# Altium integrated library Linear Technology Power Management Hot Swap Controllers.IntLib: 992 symbols (part 31 of 93)
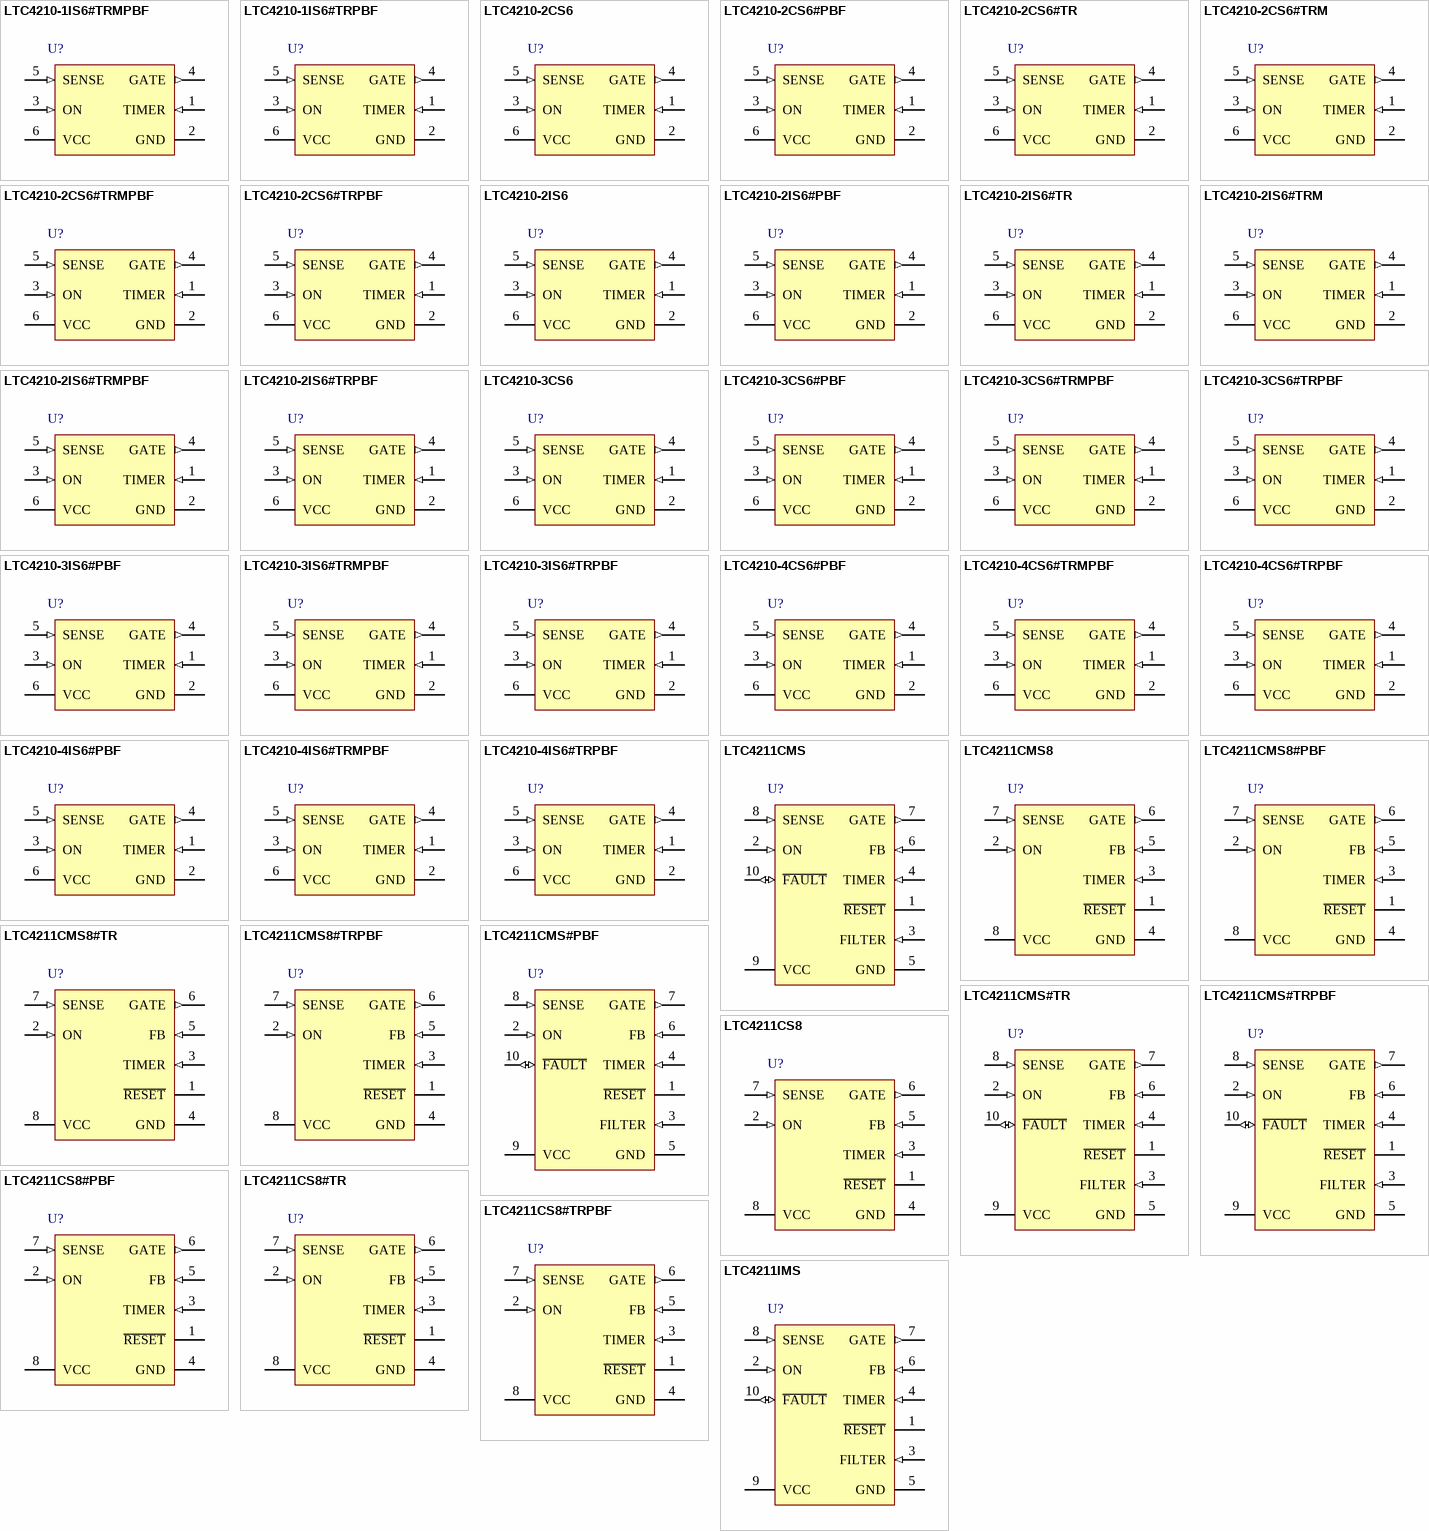
[diagram p67: symbols LTC4210-1IS6#TRMPBF to LTC4211IMS]

## LTC4211CMS#TR
designator U?
Hot Swap Controller with Multifunction Current Control, 2.5 to 16.5 V Vin, 10-pin SOP (MS-10), 0 to 70 degC, Tape and Reel; Manufacturer: Linear Technology; PartNumber: LTC4211CMS#TR; Active Limiting: no; Circuit Breaker Accuracy(%): 20; Circuit Breaker Threshold: 50 mV; Circuit Breakers(#): 1; Extended Temp: C, I; Fast Comparator: yes; In-Rush Current: Active; DatasheetVersion: Rev. B; PackageVersion: Rev. E, 06/2010; PackageReference: MS-10; PackageDescription: 10-Pin Plastic MSOP, Body 3 x 3 mm, Pitch 0.5 mm; Supplier 1: Digi-Key; Supplier Part Number 1: LTC4211CMSTR-ND; Fault: yes; Foldback: no; Packing: Tape and Reel; Power Good: no; Reset: yes; RoHS: FALSE; Vin Range: 2.5 to 16.5 V; Mounting Technology: Surface Mount; ComponentLink1Description: Manufacturer URL; ComponentLink1URL: http://www.linear.com/; ComponentLink2Description: Datasheet; ComponentLink2URL: http://cds.linear.com/docs/en/datasheet/4211fb.pdf; ComponentLink3Description: Package Specification; ComponentLink3URL: http://cds.linear.com/docs/en/packaging/05081661_F_MS.pdf
footprint LT-MS-10_N (SOP, 10-Leads, Body 3.1x3.1mm, Pitch 0.5mm, IPC Medium Density)
footprint LT-MS-10_L (SOP, 10-Leads, Body 3.1x3.1mm, Pitch 0.5mm, IPC High Density)
footprint LT-MS-10_M (SOP, 10-Leads, Body 3.1x3.1mm, Pitch 0.5mm, IPC Low Density)
pins: 1 ~{RESET} (hiz) "R\E\S\E\T\ (Pin 1/Pin 1): An open-drain output that pulls to GND if the voltage at the FB pin (Pin 5/Pin 6) falls below the FB pin threshold (1.236V). During the start-up cycle, the R\E\S\E\T\ pin goes high impedance at the (See Datasheet)", 2 ON (in) "ON (Pin 2/Pin 2): An active high signal used to enable or disable LTC4211 operation. COMP1’s high-to-low threshold is set at 1.236V and its hysteresis is set at 80mV. If a logic high signal is applied to the ON pin (VON (See Datasheet)", 3 FILTER (in) "FILTER (Not available S8/MS8, Pin 3 MS): Overcurrent Fault Timing Pin and Overvoltage Fault Set pin. With a capacitor connected from this pin to ground, the SLOW COMP’s response time can be adjusted. In the S8/MS8 versio(See Datasheet)", 4 TIMER (in) "TIMER (Pin 3/Pin 4): A capacitor connected from this pin to GND sets the LTC4211’s system timing. The LTC4211’s initial and second start-up timing cycles and its internal “power good?delay time are defined (See Datasheet)", 5 GND (power) "GND (Pin 4/Pin 5): Device Ground Connection. Connect this pin to the system’s analog ground plane.", 6 FB (in) "FB (Pin 5/Pin 6): The FB (Feedback) pin is an input to the COMP2 comparator and monitors the output supply voltage through an external resistor divider. If VFB < 1.236V, the R\E\S\E\T\ pin pulls low. An internal glitch (See Datasheet)", 7 GATE (out) "GATE (Pin 6/Pin 7): The output signal at this pin is the high side gate drive for the external N-channel FET pass transistor. As shown in the Block Diagram, an internal charge pump supplies a 10uA gate current and sufficient (See Datasheet)", 8 SENSE (in) "SENSE (Pin 7/Pin 8): Circuit Breaker Set Pin. With a sense resistor placed in the power path between VCC and SENSE, the LTC4211’s electronic circuit breaker trips if the voltage across the sense resistor exceeds th(See Datasheet)", 9 VCC (power) "VCC (Pin 8/Pin 9): This is the positive supply input to the LTC4211. The LTC4211 operates from 2.5V < VCC < 16.5V, and the supply current is typically 1mA. An internal undervoltage lockout circuit disables the device until (See Datasheet)", 10 ~{FAULT} (io) "F\A\U\L\T\ (Not available on S8/MS8, Pin 10 MS): F\A\U\L\T\ is both an input and an output. Connected to this pin are an analog comparator (COMP6) and an open-drain N-channel FET. During normal operation, if COMP6 is driven (See Datasheet)"

## LTC4211CMS#TRPBF
designator U?
Hot Swap Controller with Multifunction Current Control, 2.5 to 16.5 V Vin, 10-pin SOP (MS-10), 0 to 70 degC, Pb-Free, Tape and Reel; Manufacturer: Linear Technology; PartNumber: LTC4211CMS#TRPBF; Active Limiting: no; Circuit Breaker Accuracy(%): 20; Circuit Breaker Threshold: 50 mV; Circuit Breakers(#): 1; Extended Temp: C, I; Fast Comparator: yes; In-Rush Current: Active; DatasheetVersion: Rev. B; PackageVersion: Rev. E, 06/2010; PackageReference: MS-10; PackageDescription: 10-Pin Plastic MSOP, Body 3 x 3 mm, Pitch 0.5 mm; Supplier 1: Digi-Key; Supplier Part Number 1: LTC4211CMS#TRPBF-ND; Supplier 2: Newark; Supplier Part Number 2: 56M8770; Fault: yes; Foldback: no; Packing: Tape and Reel; Power Good: no; Reset: yes; RoHS: TRUE; Vin Range: 2.5 to 16.5 V; Mounting Technology: Surface Mount; ComponentLink1Description: Manufacturer URL; ComponentLink1URL: http://www.linear.com/; ComponentLink2Description: Datasheet; ComponentLink2URL: http://cds.linear.com/docs/en/datasheet/4211fb.pdf; ComponentLink3Description: Package Specification; ComponentLink3URL: http://cds.linear.com/docs/en/packaging/05081661_F_MS.pdf
footprint LT-MS-10_N (SOP, 10-Leads, Body 3.1x3.1mm, Pitch 0.5mm, IPC Medium Density)
footprint LT-MS-10_L (SOP, 10-Leads, Body 3.1x3.1mm, Pitch 0.5mm, IPC High Density)
footprint LT-MS-10_M (SOP, 10-Leads, Body 3.1x3.1mm, Pitch 0.5mm, IPC Low Density)
pins: 1 ~{RESET} (hiz) "R\E\S\E\T\ (Pin 1/Pin 1): An open-drain output that pulls to GND if the voltage at the FB pin (Pin 5/Pin 6) falls below the FB pin threshold (1.236V). During the start-up cycle, the R\E\S\E\T\ pin goes high impedance at the (See Datasheet)", 2 ON (in) "ON (Pin 2/Pin 2): An active high signal used to enable or disable LTC4211 operation. COMP1’s high-to-low threshold is set at 1.236V and its hysteresis is set at 80mV. If a logic high signal is applied to the ON pin (VON (See Datasheet)", 3 FILTER (in) "FILTER (Not available S8/MS8, Pin 3 MS): Overcurrent Fault Timing Pin and Overvoltage Fault Set pin. With a capacitor connected from this pin to ground, the SLOW COMP’s response time can be adjusted. In the S8/MS8 versio(See Datasheet)", 4 TIMER (in) "TIMER (Pin 3/Pin 4): A capacitor connected from this pin to GND sets the LTC4211’s system timing. The LTC4211’s initial and second start-up timing cycles and its internal “power good?delay time are defined (See Datasheet)", 5 GND (power) "GND (Pin 4/Pin 5): Device Ground Connection. Connect this pin to the system’s analog ground plane.", 6 FB (in) "FB (Pin 5/Pin 6): The FB (Feedback) pin is an input to the COMP2 comparator and monitors the output supply voltage through an external resistor divider. If VFB < 1.236V, the R\E\S\E\T\ pin pulls low. An internal glitch (See Datasheet)", 7 GATE (out) "GATE (Pin 6/Pin 7): The output signal at this pin is the high side gate drive for the external N-channel FET pass transistor. As shown in the Block Diagram, an internal charge pump supplies a 10uA gate current and sufficient (See Datasheet)", 8 SENSE (in) "SENSE (Pin 7/Pin 8): Circuit Breaker Set Pin. With a sense resistor placed in the power path between VCC and SENSE, the LTC4211’s electronic circuit breaker trips if the voltage across the sense resistor exceeds th(See Datasheet)", 9 VCC (power) "VCC (Pin 8/Pin 9): This is the positive supply input to the LTC4211. The LTC4211 operates from 2.5V < VCC < 16.5V, and the supply current is typically 1mA. An internal undervoltage lockout circuit disables the device until (See Datasheet)", 10 ~{FAULT} (io) "F\A\U\L\T\ (Not available on S8/MS8, Pin 10 MS): F\A\U\L\T\ is both an input and an output. Connected to this pin are an analog comparator (COMP6) and an open-drain N-channel FET. During normal operation, if COMP6 is driven (See Datasheet)"

## LTC4211CS8
designator U?
Hot Swap Controller with Multifunction Current Control, 2.5 to 16.5 V Vin, 8-pin SOIC (S8-8), 0 to 70 degC; Manufacturer: Linear Technology; PartNumber: LTC4211CS8; Active Limiting: no; Circuit Breaker Accuracy(%): 20; Circuit Breaker Threshold: 50 mV; Circuit Breakers(#): 1; Extended Temp: C, I; Fast Comparator: yes; In-Rush Current: Active; DatasheetVersion: Rev. B; PackageVersion: Rev. G, 03/2012; PackageReference: S8-8; PackageDescription: 8-Pin Plastic Small Outline (Narrow .150 Inch), Body 4.9 x 3.9 mm, Pitch 1.27 mm; Supplier 1: Digi-Key; Supplier Part Number 1: LTC4211CS8-ND; Fault: yes; Foldback: no; Power Good: no; Reset: yes; RoHS: FALSE; Vin Range: 2.5 to 16.5 V; Mounting Technology: Surface Mount; ComponentLink1Description: Manufacturer URL; ComponentLink1URL: http://www.linear.com/; ComponentLink2Description: Datasheet; ComponentLink2URL: http://cds.linear.com/docs/en/datasheet/4211fb.pdf; ComponentLink3Description: Package Specification; ComponentLink3URL: http://cds.linear.com/docs/en/packaging/05081610_G_SO8.pdf
footprint LT-S8-8_N (SOIC, 8-Leads, Body 5x4mm, Pitch 1.27mm, IPC Medium Density)
footprint LT-S8-8_L (SOIC, 8-Leads, Body 5x4mm, Pitch 1.27mm, IPC High Density)
footprint LT-S8-8_M (SOIC, 8-Leads, Body 5x4mm, Pitch 1.27mm, IPC Low Density)
pins: 1 ~{RESET} (hiz) "R\E\S\E\T\ (Pin 1/Pin 1): An open-drain output that pulls to GND if the voltage at the FB pin (Pin 5/Pin 6) falls below the FB pin threshold (1.236V). During the start-up cycle, the R\E\S\E\T\ pin goes high impedance at the (See Datasheet)", 2 ON (in) "ON (Pin 2/Pin 2): An active high signal used to enable or disable LTC4211 operation. COMP1's high-to-low threshold is set at 1.236V and its hysteresis is set at 80mV. If a logic high signal is applied to the ON pin (VON (See Datasheet)", 3 TIMER (in) "TIMER (Pin 3/Pin 4): A capacitor connected from this pin to GND sets the LTC4211's system timing. The LTC4211's initial and second start-up timing cycles and its internal "power good"± delay time are defined (See Datasheet)", 4 GND (power) "GND (Pin 4/Pin 5): Device Ground Connection. Connect this pin to the system's analog ground plane.", 5 FB (in) "FB (Pin 5/Pin 6): The FB (Feedback) pin is an input to the COMP2 comparator and monitors the output supply voltage through an external resistor divider. If VFB < 1.236V, the R\E\S\E\T\ pin pulls low. An internal glitch (See Datasheet)", 6 GATE (out) "GATE (Pin 6/Pin 7): The output signal at this pin is the high side gate drive for the external N-channel FET pass transistor. As shown in the Block Diagram, an internal charge pump supplies a 10uA gate current and sufficient (See Datasheet)", 7 SENSE (in) "SENSE (Pin 7/Pin 8): Circuit Breaker Set Pin. With a sense resistor placed in the power path between VCC and SENSE, the LTC4211's electronic circuit breaker trips if the voltage across the sense resistor exceeds th(See Datasheet)", 8 VCC (power) "VCC (Pin 8/Pin 9): This is the positive supply input to the LTC4211. The LTC4211 operates from 2.5V < VCC < 16.5V, and the supply current is typically 1mA. An internal undervoltage lockout circuit disables the device until (See Datasheet)"

## LTC4211CS8#PBF
designator U?
Hot Swap Controller with Multifunction Current Control, 2.5 to 16.5 V Vin, 8-pin SOIC (S8-8), 0 to 70 degC, Pb-Free; Manufacturer: Linear Technology; PartNumber: LTC4211CS8#PBF; Active Limiting: no; Circuit Breaker Accuracy(%): 20; Circuit Breaker Threshold: 50 mV; Circuit Breakers(#): 1; Extended Temp: C, I; Fast Comparator: yes; In-Rush Current: Active; DatasheetVersion: Rev. B; PackageVersion: Rev. G, 03/2012; PackageReference: S8-8; PackageDescription: 8-Pin Plastic Small Outline (Narrow .150 Inch), Body 4.9 x 3.9 mm, Pitch 1.27 mm; Supplier 1: Digi-Key; Supplier Part Number 1: LTC4211CS8#PBF-ND; Supplier 2: Farnell; Supplier Part Number 2: 1273989; Supplier 3: Newark; Supplier Part Number 3: 56M8776; Fault: yes; Foldback: no; Power Good: no; Reset: yes; RoHS: TRUE; Vin Range: 2.5 to 16.5 V; Mounting Technology: Surface Mount; ComponentLink1Description: Manufacturer URL; ComponentLink1URL: http://www.linear.com/; ComponentLink2Description: Datasheet; ComponentLink2URL: http://cds.linear.com/docs/en/datasheet/4211fb.pdf; ComponentLink3Description: Package Specification; ComponentLink3URL: http://cds.linear.com/docs/en/packaging/05081610_G_SO8.pdf
footprint LT-S8-8_N (SOIC, 8-Leads, Body 5x4mm, Pitch 1.27mm, IPC Medium Density)
footprint LT-S8-8_L (SOIC, 8-Leads, Body 5x4mm, Pitch 1.27mm, IPC High Density)
footprint LT-S8-8_M (SOIC, 8-Leads, Body 5x4mm, Pitch 1.27mm, IPC Low Density)
pins: 1 ~{RESET} (hiz) "R\E\S\E\T\ (Pin 1/Pin 1): An open-drain output that pulls to GND if the voltage at the FB pin (Pin 5/Pin 6) falls below the FB pin threshold (1.236V). During the start-up cycle, the R\E\S\E\T\ pin goes high impedance at the (See Datasheet)", 2 ON (in) "ON (Pin 2/Pin 2): An active high signal used to enable or disable LTC4211 operation. COMP1's high-to-low threshold is set at 1.236V and its hysteresis is set at 80mV. If a logic high signal is applied to the ON pin (VON (See Datasheet)", 3 TIMER (in) "TIMER (Pin 3/Pin 4): A capacitor connected from this pin to GND sets the LTC4211's system timing. The LTC4211's initial and second start-up timing cycles and its internal "power good"± delay time are defined (See Datasheet)", 4 GND (power) "GND (Pin 4/Pin 5): Device Ground Connection. Connect this pin to the system's analog ground plane.", 5 FB (in) "FB (Pin 5/Pin 6): The FB (Feedback) pin is an input to the COMP2 comparator and monitors the output supply voltage through an external resistor divider. If VFB < 1.236V, the R\E\S\E\T\ pin pulls low. An internal glitch (See Datasheet)", 6 GATE (out) "GATE (Pin 6/Pin 7): The output signal at this pin is the high side gate drive for the external N-channel FET pass transistor. As shown in the Block Diagram, an internal charge pump supplies a 10uA gate current and sufficient (See Datasheet)", 7 SENSE (in) "SENSE (Pin 7/Pin 8): Circuit Breaker Set Pin. With a sense resistor placed in the power path between VCC and SENSE, the LTC4211's electronic circuit breaker trips if the voltage across the sense resistor exceeds th(See Datasheet)", 8 VCC (power) "VCC (Pin 8/Pin 9): This is the positive supply input to the LTC4211. The LTC4211 operates from 2.5V < VCC < 16.5V, and the supply current is typically 1mA. An internal undervoltage lockout circuit disables the device until (See Datasheet)"

## LTC4211CS8#TR
designator U?
Hot Swap Controller with Multifunction Current Control, 2.5 to 16.5 V Vin, 8-pin SOIC (S8-8), 0 to 70 degC, Tape and Reel; Manufacturer: Linear Technology; PartNumber: LTC4211CS8#TR; Active Limiting: no; Circuit Breaker Accuracy(%): 20; Circuit Breaker Threshold: 50 mV; Circuit Breakers(#): 1; Extended Temp: C, I; Fast Comparator: yes; In-Rush Current: Active; DatasheetVersion: Rev. B; PackageVersion: Rev. G, 03/2012; PackageReference: S8-8; PackageDescription: 8-Pin Plastic Small Outline (Narrow .150 Inch), Body 4.9 x 3.9 mm, Pitch 1.27 mm; Supplier 1: Digi-Key; Supplier Part Number 1: LTC4211CS8TR-ND; Fault: yes; Foldback: no; Packing: Tape and Reel; Power Good: no; Reset: yes; RoHS: FALSE; Vin Range: 2.5 to 16.5 V; Mounting Technology: Surface Mount; ComponentLink1Description: Manufacturer URL; ComponentLink1URL: http://www.linear.com/; ComponentLink2Description: Datasheet; ComponentLink2URL: http://cds.linear.com/docs/en/datasheet/4211fb.pdf; ComponentLink3Description: Package Specification; ComponentLink3URL: http://cds.linear.com/docs/en/packaging/05081610_G_SO8.pdf
footprint LT-S8-8_N (SOIC, 8-Leads, Body 5x4mm, Pitch 1.27mm, IPC Medium Density)
footprint LT-S8-8_L (SOIC, 8-Leads, Body 5x4mm, Pitch 1.27mm, IPC High Density)
footprint LT-S8-8_M (SOIC, 8-Leads, Body 5x4mm, Pitch 1.27mm, IPC Low Density)
pins: 1 ~{RESET} (hiz) "R\E\S\E\T\ (Pin 1/Pin 1): An open-drain output that pulls to GND if the voltage at the FB pin (Pin 5/Pin 6) falls below the FB pin threshold (1.236V). During the start-up cycle, the R\E\S\E\T\ pin goes high impedance at the (See Datasheet)", 2 ON (in) "ON (Pin 2/Pin 2): An active high signal used to enable or disable LTC4211 operation. COMP1's high-to-low threshold is set at 1.236V and its hysteresis is set at 80mV. If a logic high signal is applied to the ON pin (VON (See Datasheet)", 3 TIMER (in) "TIMER (Pin 3/Pin 4): A capacitor connected from this pin to GND sets the LTC4211's system timing. The LTC4211's initial and second start-up timing cycles and its internal "power good"± delay time are defined (See Datasheet)", 4 GND (power) "GND (Pin 4/Pin 5): Device Ground Connection. Connect this pin to the system's analog ground plane.", 5 FB (in) "FB (Pin 5/Pin 6): The FB (Feedback) pin is an input to the COMP2 comparator and monitors the output supply voltage through an external resistor divider. If VFB < 1.236V, the R\E\S\E\T\ pin pulls low. An internal glitch (See Datasheet)", 6 GATE (out) "GATE (Pin 6/Pin 7): The output signal at this pin is the high side gate drive for the external N-channel FET pass transistor. As shown in the Block Diagram, an internal charge pump supplies a 10uA gate current and sufficient (See Datasheet)", 7 SENSE (in) "SENSE (Pin 7/Pin 8): Circuit Breaker Set Pin. With a sense resistor placed in the power path between VCC and SENSE, the LTC4211's electronic circuit breaker trips if the voltage across the sense resistor exceeds th(See Datasheet)", 8 VCC (power) "VCC (Pin 8/Pin 9): This is the positive supply input to the LTC4211. The LTC4211 operates from 2.5V < VCC < 16.5V, and the supply current is typically 1mA. An internal undervoltage lockout circuit disables the device until (See Datasheet)"

## LTC4211CS8#TRPBF
designator U?
Hot Swap Controller with Multifunction Current Control, 2.5 to 16.5 V Vin, 8-pin SOIC (S8-8), 0 to 70 degC, Pb-Free, Tape and Reel; Manufacturer: Linear Technology; PartNumber: LTC4211CS8#TRPBF; Active Limiting: no; Circuit Breaker Accuracy(%): 20; Circuit Breaker Threshold: 50 mV; Circuit Breakers(#): 1; Extended Temp: C, I; Fast Comparator: yes; In-Rush Current: Active; DatasheetVersion: Rev. B; PackageVersion: Rev. G, 03/2012; PackageReference: S8-8; PackageDescription: 8-Pin Plastic Small Outline (Narrow .150 Inch), Body 4.9 x 3.9 mm, Pitch 1.27 mm; Supplier 1: Digi-Key; Supplier Part Number 1: LTC4211CS8#TRPBFTR-ND; Supplier 2: Digi-Key; Supplier Part Number 2: LTC4211CS8#TRPBFCT-ND; Supplier 3: Digi-Key; Supplier Part Number 3: LTC4211CS8#TRPBFDKR-ND; Supplier 4: Newark; Supplier Part Number 4: 56M8778; Fault: yes; Foldback: no; Packing: Tape and Reel; Power Good: no; Reset: yes; RoHS: TRUE; Vin Range: 2.5 to 16.5 V; Mounting Technology: Surface Mount; ComponentLink1Description: Manufacturer URL; ComponentLink1URL: http://www.linear.com/; ComponentLink2Description: Datasheet; ComponentLink2URL: http://cds.linear.com/docs/en/datasheet/4211fb.pdf; ComponentLink3Description: Package Specification; ComponentLink3URL: http://cds.linear.com/docs/en/packaging/05081610_G_SO8.pdf
footprint LT-S8-8_N (SOIC, 8-Leads, Body 5x4mm, Pitch 1.27mm, IPC Medium Density)
footprint LT-S8-8_L (SOIC, 8-Leads, Body 5x4mm, Pitch 1.27mm, IPC High Density)
footprint LT-S8-8_M (SOIC, 8-Leads, Body 5x4mm, Pitch 1.27mm, IPC Low Density)
pins: 1 ~{RESET} (hiz) "R\E\S\E\T\ (Pin 1/Pin 1): An open-drain output that pulls to GND if the voltage at the FB pin (Pin 5/Pin 6) falls below the FB pin threshold (1.236V). During the start-up cycle, the R\E\S\E\T\ pin goes high impedance at the (See Datasheet)", 2 ON (in) "ON (Pin 2/Pin 2): An active high signal used to enable or disable LTC4211 operation. COMP1's high-to-low threshold is set at 1.236V and its hysteresis is set at 80mV. If a logic high signal is applied to the ON pin (VON (See Datasheet)", 3 TIMER (in) "TIMER (Pin 3/Pin 4): A capacitor connected from this pin to GND sets the LTC4211's system timing. The LTC4211's initial and second start-up timing cycles and its internal "power good"± delay time are defined (See Datasheet)", 4 GND (power) "GND (Pin 4/Pin 5): Device Ground Connection. Connect this pin to the system's analog ground plane.", 5 FB (in) "FB (Pin 5/Pin 6): The FB (Feedback) pin is an input to the COMP2 comparator and monitors the output supply voltage through an external resistor divider. If VFB < 1.236V, the R\E\S\E\T\ pin pulls low. An internal glitch (See Datasheet)", 6 GATE (out) "GATE (Pin 6/Pin 7): The output signal at this pin is the high side gate drive for the external N-channel FET pass transistor. As shown in the Block Diagram, an internal charge pump supplies a 10uA gate current and sufficient (See Datasheet)", 7 SENSE (in) "SENSE (Pin 7/Pin 8): Circuit Breaker Set Pin. With a sense resistor placed in the power path between VCC and SENSE, the LTC4211's electronic circuit breaker trips if the voltage across the sense resistor exceeds th(See Datasheet)", 8 VCC (power) "VCC (Pin 8/Pin 9): This is the positive supply input to the LTC4211. The LTC4211 operates from 2.5V < VCC < 16.5V, and the supply current is typically 1mA. An internal undervoltage lockout circuit disables the device until (See Datasheet)"

## LTC4211IMS
designator U?
Hot Swap Controller with Multifunction Current Control, 2.5 to 16.5 V Vin, 10-pin SOP (MS-10), -40 to 85 degC; Manufacturer: Linear Technology; PartNumber: LTC4211IMS; Active Limiting: no; Circuit Breaker Accuracy(%): 20; Circuit Breaker Threshold: 50 mV; Circuit Breakers(#): 1; Extended Temp: C, I; Fast Comparator: yes; In-Rush Current: Active; DatasheetVersion: Rev. B; PackageVersion: Rev. E, 06/2010; PackageReference: MS-10; PackageDescription: 10-Pin Plastic MSOP, Body 3 x 3 mm, Pitch 0.5 mm; Supplier 1: Digi-Key; Supplier Part Number 1: LTC4211IMS-ND; Fault: yes; Foldback: no; Power Good: no; Reset: yes; RoHS: FALSE; Vin Range: 2.5 to 16.5 V; Mounting Technology: Surface Mount; ComponentLink1Description: Manufacturer URL; ComponentLink1URL: http://www.linear.com/; ComponentLink2Description: Datasheet; ComponentLink2URL: http://cds.linear.com/docs/en/datasheet/4211fb.pdf; ComponentLink3Description: Package Specification; ComponentLink3URL: http://cds.linear.com/docs/en/packaging/05081661_F_MS.pdf
footprint LT-MS-10_N (SOP, 10-Leads, Body 3.1x3.1mm, Pitch 0.5mm, IPC Medium Density)
footprint LT-MS-10_L (SOP, 10-Leads, Body 3.1x3.1mm, Pitch 0.5mm, IPC High Density)
footprint LT-MS-10_M (SOP, 10-Leads, Body 3.1x3.1mm, Pitch 0.5mm, IPC Low Density)
pins: 1 ~{RESET} (hiz) "R\E\S\E\T\ (Pin 1/Pin 1): An open-drain output that pulls to GND if the voltage at the FB pin (Pin 5/Pin 6) falls below the FB pin threshold (1.236V). During the start-up cycle, the R\E\S\E\T\ pin goes high impedance at the (See Datasheet)", 2 ON (in) "ON (Pin 2/Pin 2): An active high signal used to enable or disable LTC4211 operation. COMP1’s high-to-low threshold is set at 1.236V and its hysteresis is set at 80mV. If a logic high signal is applied to the ON pin (VON (See Datasheet)", 3 FILTER (in) "FILTER (Not available S8/MS8, Pin 3 MS): Overcurrent Fault Timing Pin and Overvoltage Fault Set pin. With a capacitor connected from this pin to ground, the SLOW COMP’s response time can be adjusted. In the S8/MS8 versio(See Datasheet)", 4 TIMER (in) "TIMER (Pin 3/Pin 4): A capacitor connected from this pin to GND sets the LTC4211’s system timing. The LTC4211’s initial and second start-up timing cycles and its internal “power good?delay time are defined (See Datasheet)", 5 GND (power) "GND (Pin 4/Pin 5): Device Ground Connection. Connect this pin to the system’s analog ground plane.", 6 FB (in) "FB (Pin 5/Pin 6): The FB (Feedback) pin is an input to the COMP2 comparator and monitors the output supply voltage through an external resistor divider. If VFB < 1.236V, the R\E\S\E\T\ pin pulls low. An internal glitch (See Datasheet)", 7 GATE (out) "GATE (Pin 6/Pin 7): The output signal at this pin is the high side gate drive for the external N-channel FET pass transistor. As shown in the Block Diagram, an internal charge pump supplies a 10uA gate current and sufficient (See Datasheet)", 8 SENSE (in) "SENSE (Pin 7/Pin 8): Circuit Breaker Set Pin. With a sense resistor placed in the power path between VCC and SENSE, the LTC4211’s electronic circuit breaker trips if the voltage across the sense resistor exceeds th(See Datasheet)", 9 VCC (power) "VCC (Pin 8/Pin 9): This is the positive supply input to the LTC4211. The LTC4211 operates from 2.5V < VCC < 16.5V, and the supply current is typically 1mA. An internal undervoltage lockout circuit disables the device until (See Datasheet)", 10 ~{FAULT} (io) "F\A\U\L\T\ (Not available on S8/MS8, Pin 10 MS): F\A\U\L\T\ is both an input and an output. Connected to this pin are an analog comparator (COMP6) and an open-drain N-channel FET. During normal operation, if COMP6 is driven (See Datasheet)"

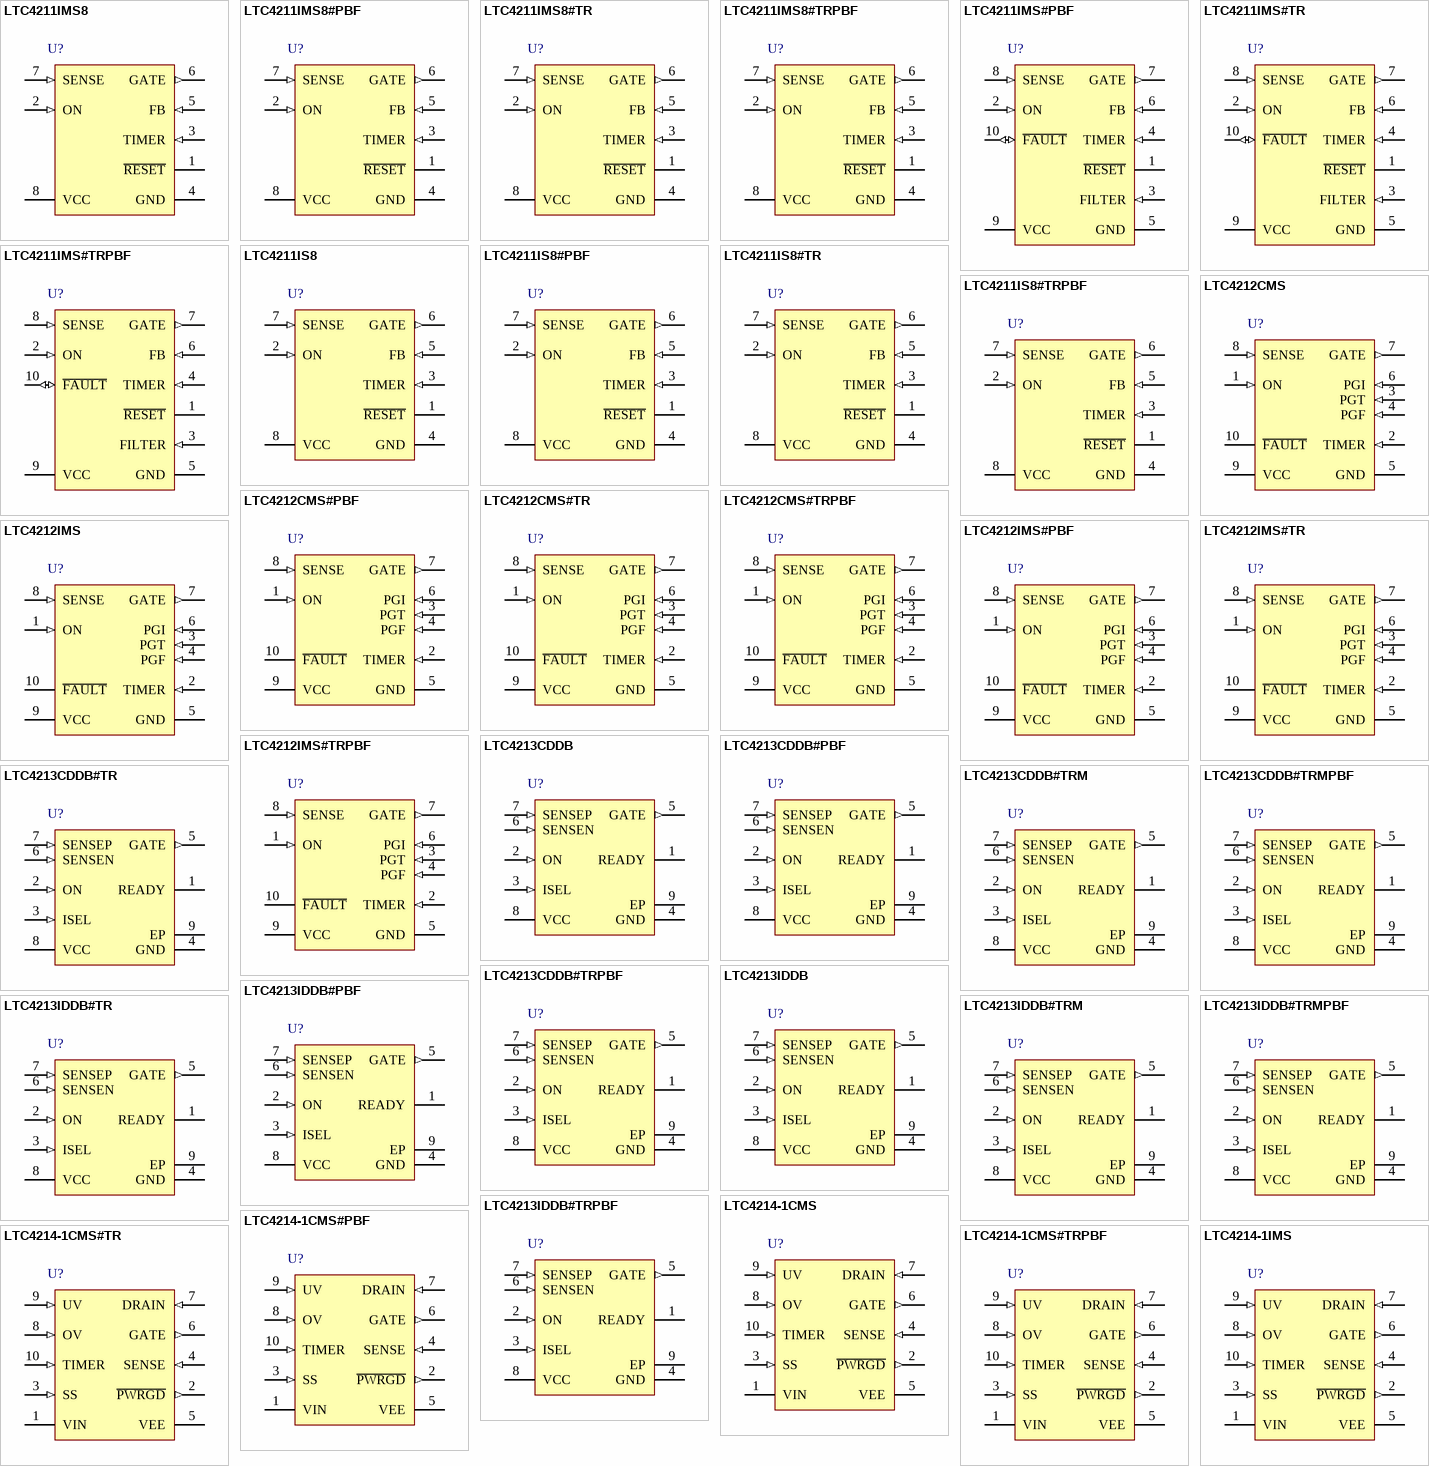
[diagram p13: symbols LTC4211IMS8 to LTC4214-1IMS]

## LTC4211IMS8
designator U?
Hot Swap Controller with Multifunction Current Control, 2.5 to 16.5 V Vin, 8-pin SOP (MS8), -40 to 85 degC; Manufacturer: Linear Technology; PartNumber: LTC4211IMS8; Active Limiting: no; Circuit Breaker Accuracy(%): 20; Circuit Breaker Threshold: 50 mV; Circuit Breakers(#): 1; Extended Temp: C, I; Fast Comparator: yes; In-Rush Current: Active; DatasheetVersion: Rev. B; PackageVersion: Rev. G, 05/2013; PackageReference: MS8; PackageDescription: 8-Pin Plastic MSOP, Body 3 x 3 mm, Pitch 0.65 mm; Supplier 1: Digi-Key; Supplier Part Number 1: LTC4211IMS8-ND; Fault: yes; Foldback: no; Power Good: no; Reset: yes; RoHS: FALSE; Vin Range: 2.5 to 16.5 V; Mounting Technology: Surface Mount; ComponentLink1Description: Manufacturer URL; ComponentLink1URL: http://www.linear.com/; ComponentLink2Description: Datasheet; ComponentLink2URL: http://cds.linear.com/docs/en/datasheet/4211fb.pdf; ComponentLink3Description: Package Specification; ComponentLink3URL: http://cds.linear.com/docs/en/packaging/05081660_G_MS8.pdf
footprint LT-MS8_N (SOP, 8-Leads, Body 3.1x3.1mm, Pitch 0.65mm, IPC Medium Density)
footprint LT-MS8_L (SOP, 8-Leads, Body 3.1x3.1mm, Pitch 0.65mm, IPC High Density)
footprint LT-MS8_M (SOP, 8-Leads, Body 3.1x3.1mm, Pitch 0.65mm, IPC Low Density)
pins: 1 ~{RESET} (hiz) "R\E\S\E\T\ (Pin 1/Pin 1): An open-drain output that pulls to GND if the voltage at the FB pin (Pin 5/Pin 6) falls below the FB pin threshold (1.236V). During the start-up cycle, the R\E\S\E\T\ pin goes high impedance at the (See Datasheet)", 2 ON (in) "ON (Pin 2/Pin 2): An active high signal used to enable or disable LTC4211 operation. COMP1's high-to-low threshold is set at 1.236V and its hysteresis is set at 80mV. If a logic high signal is applied to the ON pin (VON (See Datasheet)", 3 TIMER (in) "TIMER (Pin 3/Pin 4): A capacitor connected from this pin to GND sets the LTC4211's system timing. The LTC4211's initial and second start-up timing cycles and its internal "power good"± delay time are defined (See Datasheet)", 4 GND (power) "GND (Pin 4/Pin 5): Device Ground Connection. Connect this pin to the system's analog ground plane.", 5 FB (in) "FB (Pin 5/Pin 6): The FB (Feedback) pin is an input to the COMP2 comparator and monitors the output supply voltage through an external resistor divider. If VFB < 1.236V, the R\E\S\E\T\ pin pulls low. An internal glitch (See Datasheet)", 6 GATE (out) "GATE (Pin 6/Pin 7): The output signal at this pin is the high side gate drive for the external N-channel FET pass transistor. As shown in the Block Diagram, an internal charge pump supplies a 10uA gate current and sufficient (See Datasheet)", 7 SENSE (in) "SENSE (Pin 7/Pin 8): Circuit Breaker Set Pin. With a sense resistor placed in the power path between VCC and SENSE, the LTC4211's electronic circuit breaker trips if the voltage across the sense resistor exceeds th(See Datasheet)", 8 VCC (power) "VCC (Pin 8/Pin 9): This is the positive supply input to the LTC4211. The LTC4211 operates from 2.5V < VCC < 16.5V, and the supply current is typically 1mA. An internal undervoltage lockout circuit disables the device until (See Datasheet)"

## LTC4211IMS8#PBF
designator U?
Hot Swap Controller with Multifunction Current Control, 2.5 to 16.5 V Vin, 8-pin SOP (MS8), -40 to 85 degC, Pb-Free; Manufacturer: Linear Technology; PartNumber: LTC4211IMS8#PBF; Active Limiting: no; Circuit Breaker Accuracy(%): 20; Circuit Breaker Threshold: 50 mV; Circuit Breakers(#): 1; Extended Temp: C, I; Fast Comparator: yes; In-Rush Current: Active; DatasheetVersion: Rev. B; PackageVersion: Rev. G, 05/2013; PackageReference: MS8; PackageDescription: 8-Pin Plastic MSOP, Body 3 x 3 mm, Pitch 0.65 mm; Supplier 1: Digi-Key; Supplier Part Number 1: LTC4211IMS8#PBF-ND; Supplier 2: Newark; Supplier Part Number 2: 56M8784; Fault: yes; Foldback: no; Power Good: no; Reset: yes; RoHS: TRUE; Vin Range: 2.5 to 16.5 V; Mounting Technology: Surface Mount; ComponentLink1Description: Manufacturer URL; ComponentLink1URL: http://www.linear.com/; ComponentLink2Description: Datasheet; ComponentLink2URL: http://cds.linear.com/docs/en/datasheet/4211fb.pdf; ComponentLink3Description: Package Specification; ComponentLink3URL: http://cds.linear.com/docs/en/packaging/05081660_G_MS8.pdf
footprint LT-MS8_N (SOP, 8-Leads, Body 3.1x3.1mm, Pitch 0.65mm, IPC Medium Density)
footprint LT-MS8_L (SOP, 8-Leads, Body 3.1x3.1mm, Pitch 0.65mm, IPC High Density)
footprint LT-MS8_M (SOP, 8-Leads, Body 3.1x3.1mm, Pitch 0.65mm, IPC Low Density)
pins: 1 ~{RESET} (hiz) "R\E\S\E\T\ (Pin 1/Pin 1): An open-drain output that pulls to GND if the voltage at the FB pin (Pin 5/Pin 6) falls below the FB pin threshold (1.236V). During the start-up cycle, the R\E\S\E\T\ pin goes high impedance at the (See Datasheet)", 2 ON (in) "ON (Pin 2/Pin 2): An active high signal used to enable or disable LTC4211 operation. COMP1's high-to-low threshold is set at 1.236V and its hysteresis is set at 80mV. If a logic high signal is applied to the ON pin (VON (See Datasheet)", 3 TIMER (in) "TIMER (Pin 3/Pin 4): A capacitor connected from this pin to GND sets the LTC4211's system timing. The LTC4211's initial and second start-up timing cycles and its internal "power good"± delay time are defined (See Datasheet)", 4 GND (power) "GND (Pin 4/Pin 5): Device Ground Connection. Connect this pin to the system's analog ground plane.", 5 FB (in) "FB (Pin 5/Pin 6): The FB (Feedback) pin is an input to the COMP2 comparator and monitors the output supply voltage through an external resistor divider. If VFB < 1.236V, the R\E\S\E\T\ pin pulls low. An internal glitch (See Datasheet)", 6 GATE (out) "GATE (Pin 6/Pin 7): The output signal at this pin is the high side gate drive for the external N-channel FET pass transistor. As shown in the Block Diagram, an internal charge pump supplies a 10uA gate current and sufficient (See Datasheet)", 7 SENSE (in) "SENSE (Pin 7/Pin 8): Circuit Breaker Set Pin. With a sense resistor placed in the power path between VCC and SENSE, the LTC4211's electronic circuit breaker trips if the voltage across the sense resistor exceeds th(See Datasheet)", 8 VCC (power) "VCC (Pin 8/Pin 9): This is the positive supply input to the LTC4211. The LTC4211 operates from 2.5V < VCC < 16.5V, and the supply current is typically 1mA. An internal undervoltage lockout circuit disables the device until (See Datasheet)"

## LTC4211IMS8#TR
designator U?
Hot Swap Controller with Multifunction Current Control, 2.5 to 16.5 V Vin, 8-pin SOP (MS8), -40 to 85 degC, Tape and Reel; Manufacturer: Linear Technology; PartNumber: LTC4211IMS8#TR; Active Limiting: no; Circuit Breaker Accuracy(%): 20; Circuit Breaker Threshold: 50 mV; Circuit Breakers(#): 1; Extended Temp: C, I; Fast Comparator: yes; In-Rush Current: Active; DatasheetVersion: Rev. B; PackageVersion: Rev. G, 05/2013; PackageReference: MS8; PackageDescription: 8-Pin Plastic MSOP, Body 3 x 3 mm, Pitch 0.65 mm; Supplier 1: Digi-Key; Supplier Part Number 1: LTC4211IMS8TR-ND; Fault: yes; Foldback: no; Packing: Tape and Reel; Power Good: no; Reset: yes; RoHS: FALSE; Vin Range: 2.5 to 16.5 V; Mounting Technology: Surface Mount; ComponentLink1Description: Manufacturer URL; ComponentLink1URL: http://www.linear.com/; ComponentLink2Description: Datasheet; ComponentLink2URL: http://cds.linear.com/docs/en/datasheet/4211fb.pdf; ComponentLink3Description: Package Specification; ComponentLink3URL: http://cds.linear.com/docs/en/packaging/05081660_G_MS8.pdf
footprint LT-MS8_N (SOP, 8-Leads, Body 3.1x3.1mm, Pitch 0.65mm, IPC Medium Density)
footprint LT-MS8_L (SOP, 8-Leads, Body 3.1x3.1mm, Pitch 0.65mm, IPC High Density)
footprint LT-MS8_M (SOP, 8-Leads, Body 3.1x3.1mm, Pitch 0.65mm, IPC Low Density)
pins: 1 ~{RESET} (hiz) "R\E\S\E\T\ (Pin 1/Pin 1): An open-drain output that pulls to GND if the voltage at the FB pin (Pin 5/Pin 6) falls below the FB pin threshold (1.236V). During the start-up cycle, the R\E\S\E\T\ pin goes high impedance at the (See Datasheet)", 2 ON (in) "ON (Pin 2/Pin 2): An active high signal used to enable or disable LTC4211 operation. COMP1's high-to-low threshold is set at 1.236V and its hysteresis is set at 80mV. If a logic high signal is applied to the ON pin (VON (See Datasheet)", 3 TIMER (in) "TIMER (Pin 3/Pin 4): A capacitor connected from this pin to GND sets the LTC4211's system timing. The LTC4211's initial and second start-up timing cycles and its internal "power good"± delay time are defined (See Datasheet)", 4 GND (power) "GND (Pin 4/Pin 5): Device Ground Connection. Connect this pin to the system's analog ground plane.", 5 FB (in) "FB (Pin 5/Pin 6): The FB (Feedback) pin is an input to the COMP2 comparator and monitors the output supply voltage through an external resistor divider. If VFB < 1.236V, the R\E\S\E\T\ pin pulls low. An internal glitch (See Datasheet)", 6 GATE (out) "GATE (Pin 6/Pin 7): The output signal at this pin is the high side gate drive for the external N-channel FET pass transistor. As shown in the Block Diagram, an internal charge pump supplies a 10uA gate current and sufficient (See Datasheet)", 7 SENSE (in) "SENSE (Pin 7/Pin 8): Circuit Breaker Set Pin. With a sense resistor placed in the power path between VCC and SENSE, the LTC4211's electronic circuit breaker trips if the voltage across the sense resistor exceeds th(See Datasheet)", 8 VCC (power) "VCC (Pin 8/Pin 9): This is the positive supply input to the LTC4211. The LTC4211 operates from 2.5V < VCC < 16.5V, and the supply current is typically 1mA. An internal undervoltage lockout circuit disables the device until (See Datasheet)"

## LTC4211IMS8#TRPBF
designator U?
Hot Swap Controller with Multifunction Current Control, 2.5 to 16.5 V Vin, 8-pin SOP (MS8), -40 to 85 degC, Pb-Free, Tape and Reel; Manufacturer: Linear Technology; PartNumber: LTC4211IMS8#TRPBF; Active Limiting: no; Circuit Breaker Accuracy(%): 20; Circuit Breaker Threshold: 50 mV; Circuit Breakers(#): 1; Extended Temp: C, I; Fast Comparator: yes; In-Rush Current: Active; DatasheetVersion: Rev. B; PackageVersion: Rev. G, 05/2013; PackageReference: MS8; PackageDescription: 8-Pin Plastic MSOP, Body 3 x 3 mm, Pitch 0.65 mm; Supplier 1: Digi-Key; Supplier Part Number 1: LTC4211IMS8#TRPBF-ND; Fault: yes; Foldback: no; Packing: Tape and Reel; Power Good: no; Reset: yes; RoHS: TRUE; Vin Range: 2.5 to 16.5 V; Mounting Technology: Surface Mount; ComponentLink1Description: Manufacturer URL; ComponentLink1URL: http://www.linear.com/; ComponentLink2Description: Datasheet; ComponentLink2URL: http://cds.linear.com/docs/en/datasheet/4211fb.pdf; ComponentLink3Description: Package Specification; ComponentLink3URL: http://cds.linear.com/docs/en/packaging/05081660_G_MS8.pdf
footprint LT-MS8_N (SOP, 8-Leads, Body 3.1x3.1mm, Pitch 0.65mm, IPC Medium Density)
footprint LT-MS8_L (SOP, 8-Leads, Body 3.1x3.1mm, Pitch 0.65mm, IPC High Density)
footprint LT-MS8_M (SOP, 8-Leads, Body 3.1x3.1mm, Pitch 0.65mm, IPC Low Density)
pins: 1 ~{RESET} (hiz) "R\E\S\E\T\ (Pin 1/Pin 1): An open-drain output that pulls to GND if the voltage at the FB pin (Pin 5/Pin 6) falls below the FB pin threshold (1.236V). During the start-up cycle, the R\E\S\E\T\ pin goes high impedance at the (See Datasheet)", 2 ON (in) "ON (Pin 2/Pin 2): An active high signal used to enable or disable LTC4211 operation. COMP1's high-to-low threshold is set at 1.236V and its hysteresis is set at 80mV. If a logic high signal is applied to the ON pin (VON (See Datasheet)", 3 TIMER (in) "TIMER (Pin 3/Pin 4): A capacitor connected from this pin to GND sets the LTC4211's system timing. The LTC4211's initial and second start-up timing cycles and its internal "power good"± delay time are defined (See Datasheet)", 4 GND (power) "GND (Pin 4/Pin 5): Device Ground Connection. Connect this pin to the system's analog ground plane.", 5 FB (in) "FB (Pin 5/Pin 6): The FB (Feedback) pin is an input to the COMP2 comparator and monitors the output supply voltage through an external resistor divider. If VFB < 1.236V, the R\E\S\E\T\ pin pulls low. An internal glitch (See Datasheet)", 6 GATE (out) "GATE (Pin 6/Pin 7): The output signal at this pin is the high side gate drive for the external N-channel FET pass transistor. As shown in the Block Diagram, an internal charge pump supplies a 10uA gate current and sufficient (See Datasheet)", 7 SENSE (in) "SENSE (Pin 7/Pin 8): Circuit Breaker Set Pin. With a sense resistor placed in the power path between VCC and SENSE, the LTC4211's electronic circuit breaker trips if the voltage across the sense resistor exceeds th(See Datasheet)", 8 VCC (power) "VCC (Pin 8/Pin 9): This is the positive supply input to the LTC4211. The LTC4211 operates from 2.5V < VCC < 16.5V, and the supply current is typically 1mA. An internal undervoltage lockout circuit disables the device until (See Datasheet)"

## LTC4211IMS#PBF
designator U?
Hot Swap Controller with Multifunction Current Control, 2.5 to 16.5 V Vin, 10-pin SOP (MS-10), -40 to 85 degC, Pb-Free; Manufacturer: Linear Technology; PartNumber: LTC4211IMS#PBF; Active Limiting: no; Circuit Breaker Accuracy(%): 20; Circuit Breaker Threshold: 50 mV; Circuit Breakers(#): 1; Extended Temp: C, I; Fast Comparator: yes; In-Rush Current: Active; DatasheetVersion: Rev. B; PackageVersion: Rev. E, 06/2010; PackageReference: MS-10; PackageDescription: 10-Pin Plastic MSOP, Body 3 x 3 mm, Pitch 0.5 mm; Supplier 1: Digi-Key; Supplier Part Number 1: LTC4211IMS#PBF-ND; Supplier 2: Newark; Supplier Part Number 2: 56M8780; Fault: yes; Foldback: no; Power Good: no; Reset: yes; RoHS: TRUE; Vin Range: 2.5 to 16.5 V; Mounting Technology: Surface Mount; ComponentLink1Description: Manufacturer URL; ComponentLink1URL: http://www.linear.com/; ComponentLink2Description: Datasheet; ComponentLink2URL: http://cds.linear.com/docs/en/datasheet/4211fb.pdf; ComponentLink3Description: Package Specification; ComponentLink3URL: http://cds.linear.com/docs/en/packaging/05081661_F_MS.pdf
footprint LT-MS-10_N (SOP, 10-Leads, Body 3.1x3.1mm, Pitch 0.5mm, IPC Medium Density)
footprint LT-MS-10_L (SOP, 10-Leads, Body 3.1x3.1mm, Pitch 0.5mm, IPC High Density)
footprint LT-MS-10_M (SOP, 10-Leads, Body 3.1x3.1mm, Pitch 0.5mm, IPC Low Density)
pins: 1 ~{RESET} (hiz) "R\E\S\E\T\ (Pin 1/Pin 1): An open-drain output that pulls to GND if the voltage at the FB pin (Pin 5/Pin 6) falls below the FB pin threshold (1.236V). During the start-up cycle, the R\E\S\E\T\ pin goes high impedance at the (See Datasheet)", 2 ON (in) "ON (Pin 2/Pin 2): An active high signal used to enable or disable LTC4211 operation. COMP1’s high-to-low threshold is set at 1.236V and its hysteresis is set at 80mV. If a logic high signal is applied to the ON pin (VON (See Datasheet)", 3 FILTER (in) "FILTER (Not available S8/MS8, Pin 3 MS): Overcurrent Fault Timing Pin and Overvoltage Fault Set pin. With a capacitor connected from this pin to ground, the SLOW COMP’s response time can be adjusted. In the S8/MS8 versio(See Datasheet)", 4 TIMER (in) "TIMER (Pin 3/Pin 4): A capacitor connected from this pin to GND sets the LTC4211’s system timing. The LTC4211’s initial and second start-up timing cycles and its internal “power good?delay time are defined (See Datasheet)", 5 GND (power) "GND (Pin 4/Pin 5): Device Ground Connection. Connect this pin to the system’s analog ground plane.", 6 FB (in) "FB (Pin 5/Pin 6): The FB (Feedback) pin is an input to the COMP2 comparator and monitors the output supply voltage through an external resistor divider. If VFB < 1.236V, the R\E\S\E\T\ pin pulls low. An internal glitch (See Datasheet)", 7 GATE (out) "GATE (Pin 6/Pin 7): The output signal at this pin is the high side gate drive for the external N-channel FET pass transistor. As shown in the Block Diagram, an internal charge pump supplies a 10uA gate current and sufficient (See Datasheet)", 8 SENSE (in) "SENSE (Pin 7/Pin 8): Circuit Breaker Set Pin. With a sense resistor placed in the power path between VCC and SENSE, the LTC4211’s electronic circuit breaker trips if the voltage across the sense resistor exceeds th(See Datasheet)", 9 VCC (power) "VCC (Pin 8/Pin 9): This is the positive supply input to the LTC4211. The LTC4211 operates from 2.5V < VCC < 16.5V, and the supply current is typically 1mA. An internal undervoltage lockout circuit disables the device until (See Datasheet)", 10 ~{FAULT} (io) "F\A\U\L\T\ (Not available on S8/MS8, Pin 10 MS): F\A\U\L\T\ is both an input and an output. Connected to this pin are an analog comparator (COMP6) and an open-drain N-channel FET. During normal operation, if COMP6 is driven (See Datasheet)"

## LTC4211IMS#TR
designator U?
Hot Swap Controller with Multifunction Current Control, 2.5 to 16.5 V Vin, 10-pin SOP (MS-10), -40 to 85 degC, Tape and Reel; Manufacturer: Linear Technology; PartNumber: LTC4211IMS#TR; Active Limiting: no; Circuit Breaker Accuracy(%): 20; Circuit Breaker Threshold: 50 mV; Circuit Breakers(#): 1; Extended Temp: C, I; Fast Comparator: yes; In-Rush Current: Active; DatasheetVersion: Rev. B; PackageVersion: Rev. E, 06/2010; PackageReference: MS-10; PackageDescription: 10-Pin Plastic MSOP, Body 3 x 3 mm, Pitch 0.5 mm; Supplier 1: Digi-Key; Supplier Part Number 1: LTC4211IMSTR-ND; Fault: yes; Foldback: no; Packing: Tape and Reel; Power Good: no; Reset: yes; RoHS: FALSE; Vin Range: 2.5 to 16.5 V; Mounting Technology: Surface Mount; ComponentLink1Description: Manufacturer URL; ComponentLink1URL: http://www.linear.com/; ComponentLink2Description: Datasheet; ComponentLink2URL: http://cds.linear.com/docs/en/datasheet/4211fb.pdf; ComponentLink3Description: Package Specification; ComponentLink3URL: http://cds.linear.com/docs/en/packaging/05081661_F_MS.pdf
footprint LT-MS-10_N (SOP, 10-Leads, Body 3.1x3.1mm, Pitch 0.5mm, IPC Medium Density)
footprint LT-MS-10_L (SOP, 10-Leads, Body 3.1x3.1mm, Pitch 0.5mm, IPC High Density)
footprint LT-MS-10_M (SOP, 10-Leads, Body 3.1x3.1mm, Pitch 0.5mm, IPC Low Density)
pins: 1 ~{RESET} (hiz) "R\E\S\E\T\ (Pin 1/Pin 1): An open-drain output that pulls to GND if the voltage at the FB pin (Pin 5/Pin 6) falls below the FB pin threshold (1.236V). During the start-up cycle, the R\E\S\E\T\ pin goes high impedance at the (See Datasheet)", 2 ON (in) "ON (Pin 2/Pin 2): An active high signal used to enable or disable LTC4211 operation. COMP1’s high-to-low threshold is set at 1.236V and its hysteresis is set at 80mV. If a logic high signal is applied to the ON pin (VON (See Datasheet)", 3 FILTER (in) "FILTER (Not available S8/MS8, Pin 3 MS): Overcurrent Fault Timing Pin and Overvoltage Fault Set pin. With a capacitor connected from this pin to ground, the SLOW COMP’s response time can be adjusted. In the S8/MS8 versio(See Datasheet)", 4 TIMER (in) "TIMER (Pin 3/Pin 4): A capacitor connected from this pin to GND sets the LTC4211’s system timing. The LTC4211’s initial and second start-up timing cycles and its internal “power good?delay time are defined (See Datasheet)", 5 GND (power) "GND (Pin 4/Pin 5): Device Ground Connection. Connect this pin to the system’s analog ground plane.", 6 FB (in) "FB (Pin 5/Pin 6): The FB (Feedback) pin is an input to the COMP2 comparator and monitors the output supply voltage through an external resistor divider. If VFB < 1.236V, the R\E\S\E\T\ pin pulls low. An internal glitch (See Datasheet)", 7 GATE (out) "GATE (Pin 6/Pin 7): The output signal at this pin is the high side gate drive for the external N-channel FET pass transistor. As shown in the Block Diagram, an internal charge pump supplies a 10uA gate current and sufficient (See Datasheet)", 8 SENSE (in) "SENSE (Pin 7/Pin 8): Circuit Breaker Set Pin. With a sense resistor placed in the power path between VCC and SENSE, the LTC4211’s electronic circuit breaker trips if the voltage across the sense resistor exceeds th(See Datasheet)", 9 VCC (power) "VCC (Pin 8/Pin 9): This is the positive supply input to the LTC4211. The LTC4211 operates from 2.5V < VCC < 16.5V, and the supply current is typically 1mA. An internal undervoltage lockout circuit disables the device until (See Datasheet)", 10 ~{FAULT} (io) "F\A\U\L\T\ (Not available on S8/MS8, Pin 10 MS): F\A\U\L\T\ is both an input and an output. Connected to this pin are an analog comparator (COMP6) and an open-drain N-channel FET. During normal operation, if COMP6 is driven (See Datasheet)"

## LTC4211IMS#TRPBF
designator U?
Hot Swap Controller with Multifunction Current Control, 2.5 to 16.5 V Vin, 10-pin SOP (MS-10), -40 to 85 degC, Pb-Free, Tape and Reel; Manufacturer: Linear Technology; PartNumber: LTC4211IMS#TRPBF; Active Limiting: no; Circuit Breaker Accuracy(%): 20; Circuit Breaker Threshold: 50 mV; Circuit Breakers(#): 1; Extended Temp: C, I; Fast Comparator: yes; In-Rush Current: Active; DatasheetVersion: Rev. B; PackageVersion: Rev. E, 06/2010; PackageReference: MS-10; PackageDescription: 10-Pin Plastic MSOP, Body 3 x 3 mm, Pitch 0.5 mm; Supplier 1: Digi-Key; Supplier Part Number 1: LTC4211IMS#TRPBF-ND; Supplier 2: Newark; Supplier Part Number 2: 56M8782; Fault: yes; Foldback: no; Packing: Tape and Reel; Power Good: no; Reset: yes; RoHS: TRUE; Vin Range: 2.5 to 16.5 V; Mounting Technology: Surface Mount; ComponentLink1Description: Manufacturer URL; ComponentLink1URL: http://www.linear.com/; ComponentLink2Description: Datasheet; ComponentLink2URL: http://cds.linear.com/docs/en/datasheet/4211fb.pdf; ComponentLink3Description: Package Specification; ComponentLink3URL: http://cds.linear.com/docs/en/packaging/05081661_F_MS.pdf
footprint LT-MS-10_N (SOP, 10-Leads, Body 3.1x3.1mm, Pitch 0.5mm, IPC Medium Density)
footprint LT-MS-10_L (SOP, 10-Leads, Body 3.1x3.1mm, Pitch 0.5mm, IPC High Density)
footprint LT-MS-10_M (SOP, 10-Leads, Body 3.1x3.1mm, Pitch 0.5mm, IPC Low Density)
pins: 1 ~{RESET} (hiz) "R\E\S\E\T\ (Pin 1/Pin 1): An open-drain output that pulls to GND if the voltage at the FB pin (Pin 5/Pin 6) falls below the FB pin threshold (1.236V). During the start-up cycle, the R\E\S\E\T\ pin goes high impedance at the (See Datasheet)", 2 ON (in) "ON (Pin 2/Pin 2): An active high signal used to enable or disable LTC4211 operation. COMP1’s high-to-low threshold is set at 1.236V and its hysteresis is set at 80mV. If a logic high signal is applied to the ON pin (VON (See Datasheet)", 3 FILTER (in) "FILTER (Not available S8/MS8, Pin 3 MS): Overcurrent Fault Timing Pin and Overvoltage Fault Set pin. With a capacitor connected from this pin to ground, the SLOW COMP’s response time can be adjusted. In the S8/MS8 versio(See Datasheet)", 4 TIMER (in) "TIMER (Pin 3/Pin 4): A capacitor connected from this pin to GND sets the LTC4211’s system timing. The LTC4211’s initial and second start-up timing cycles and its internal “power good?delay time are defined (See Datasheet)", 5 GND (power) "GND (Pin 4/Pin 5): Device Ground Connection. Connect this pin to the system’s analog ground plane.", 6 FB (in) "FB (Pin 5/Pin 6): The FB (Feedback) pin is an input to the COMP2 comparator and monitors the output supply voltage through an external resistor divider. If VFB < 1.236V, the R\E\S\E\T\ pin pulls low. An internal glitch (See Datasheet)", 7 GATE (out) "GATE (Pin 6/Pin 7): The output signal at this pin is the high side gate drive for the external N-channel FET pass transistor. As shown in the Block Diagram, an internal charge pump supplies a 10uA gate current and sufficient (See Datasheet)", 8 SENSE (in) "SENSE (Pin 7/Pin 8): Circuit Breaker Set Pin. With a sense resistor placed in the power path between VCC and SENSE, the LTC4211’s electronic circuit breaker trips if the voltage across the sense resistor exceeds th(See Datasheet)", 9 VCC (power) "VCC (Pin 8/Pin 9): This is the positive supply input to the LTC4211. The LTC4211 operates from 2.5V < VCC < 16.5V, and the supply current is typically 1mA. An internal undervoltage lockout circuit disables the device until (See Datasheet)", 10 ~{FAULT} (io) "F\A\U\L\T\ (Not available on S8/MS8, Pin 10 MS): F\A\U\L\T\ is both an input and an output. Connected to this pin are an analog comparator (COMP6) and an open-drain N-channel FET. During normal operation, if COMP6 is driven (See Datasheet)"